# Altium schematic symbol library kmilo17pet-Microchip_MixedSignal.SchLib: 1399 symbols (part 25 of 36)
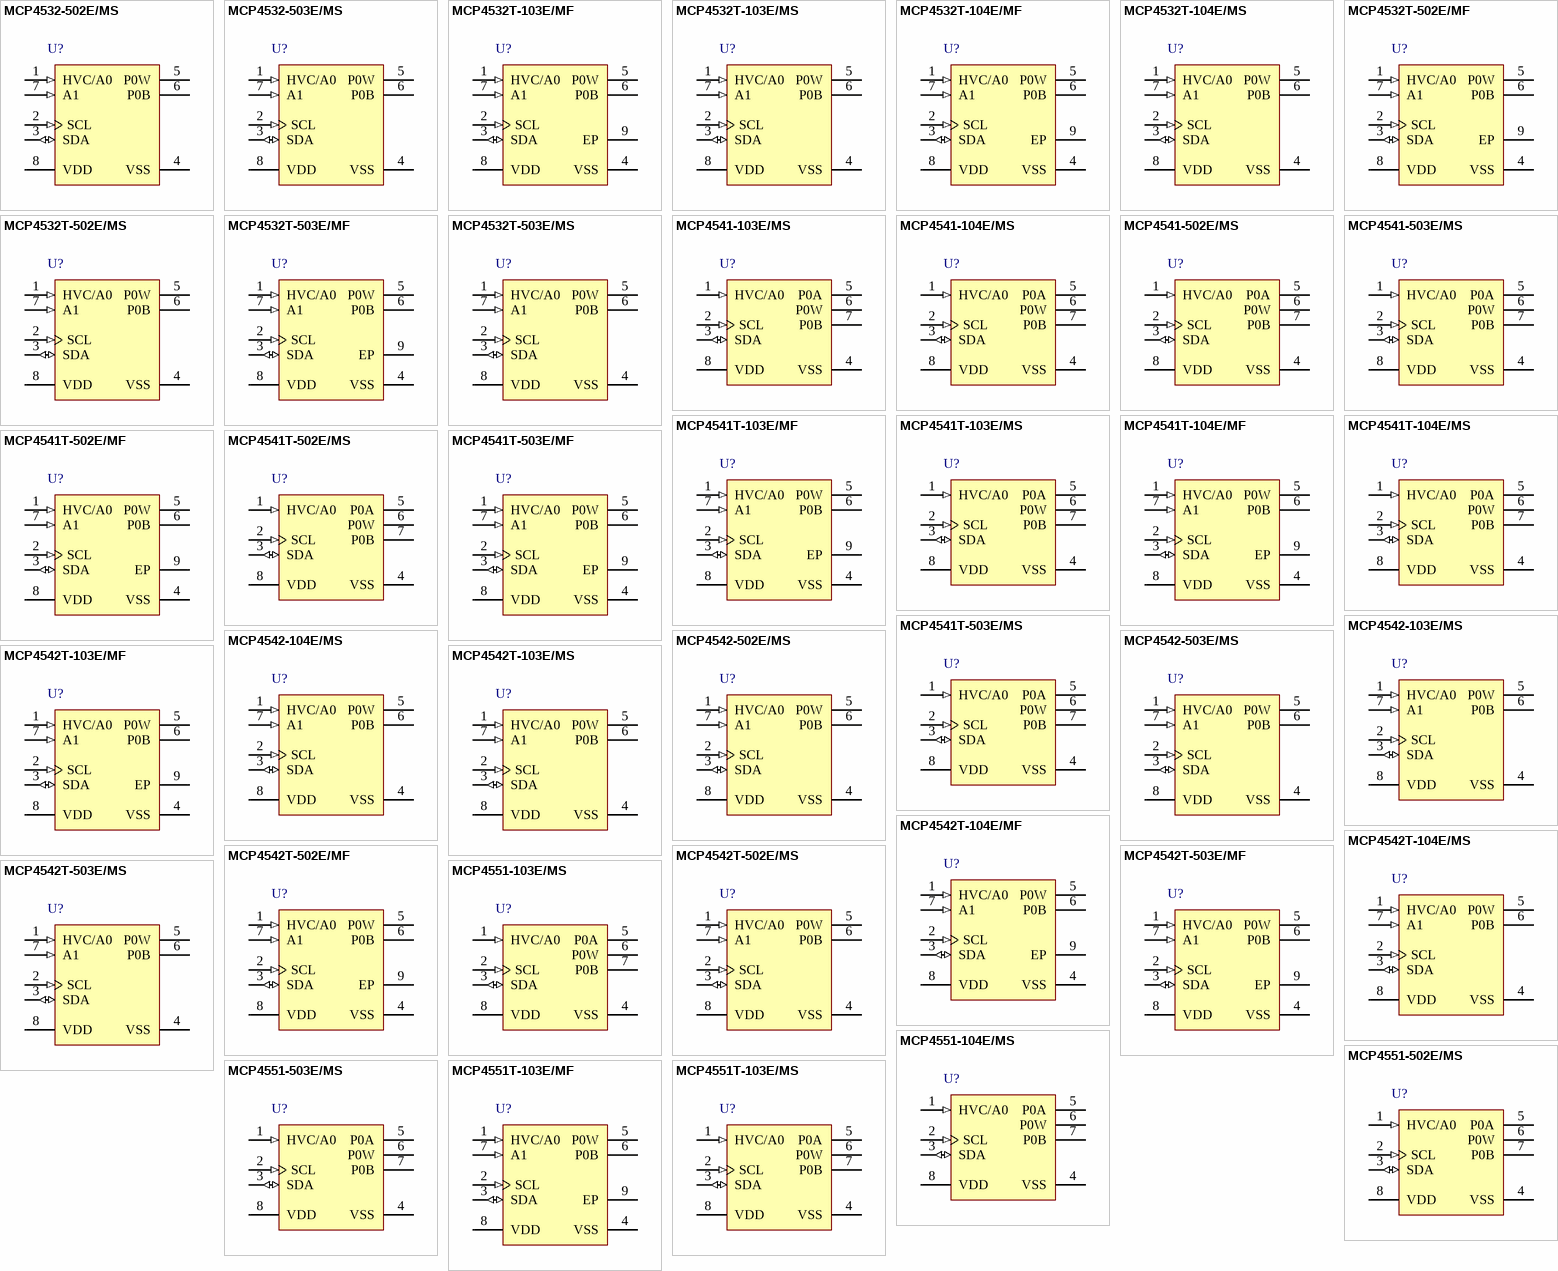
[diagram p68: symbols MCP4532-502E/MS to MCP4551T-103E/MS]

## MCP4542-502E/MS
designator U?
7-Bit Single I2C Digital POT with Non-Volatile Memory, 8-pin MSOP, Extended Temperature; Manufacturer: Microchip; PartNumber: MCP4542-502E/MS; DatasheetVersion: revA, Nov-2008; PackageVersion: revBB, Aug-2009; PackageReference: MSOP-MS8; PackageDescription: 8-Lead Plastic Micro Small Outline Package (MS) [MSOP]; Supplier 1: Digi-Key; Supplier Part Number 1: MCP4542-502E/MS-ND; Mounting Technology: Surface Mount; ComponentLink1Description: Manufacturer URL; ComponentLink1URL: http://www.microchip.com/; ComponentLink2Description: Datasheet; ComponentLink2URL: http://ww1.microchip.com/downloads/en/DeviceDoc/22107a.pdf; ComponentLink3Description: Package Specification; ComponentLink3URL: http://www.microchip.com/stellent/groups/techpub_sg/documents/packagingspec/en012702.pdf
footprint MSOP-MS8_N (TSOP, 8-Leads, Body 3x3mm, Pitch 0.65mm, IPC Medium Density)
footprint MSOP-MS8_L (TSOP, 8-Leads, Body 3x3mm, Pitch 0.65mm, IPC High Density)
footprint MSOP-MS8_M (TSOP, 8-Leads, Body 3x3mm, Pitch 0.65mm, IPC Low Density)
pins: 1 HVC/A0 (in), 2 SCL (in), 3 SDA (io), 4 VSS (power), 5 P0W, 6 P0B, 7 A1 (in), 8 VDD (power)

## MCP4542-503E/MS
designator U?
7-Bit Single I2C Digital POT with Non-Volatile Memory, 8-pin MSOP, Extended Temperature; Manufacturer: Microchip; PartNumber: MCP4542-503E/MS; DatasheetVersion: revA, Nov-2008; PackageVersion: revBB, Aug-2009; PackageReference: MSOP-MS8; PackageDescription: 8-Lead Plastic Micro Small Outline Package (MS) [MSOP]; Supplier 1: Digi-Key; Supplier Part Number 1: MCP4542-503E/MS-ND; Mounting Technology: Surface Mount; ComponentLink1Description: Manufacturer URL; ComponentLink1URL: http://www.microchip.com/; ComponentLink2Description: Datasheet; ComponentLink2URL: http://ww1.microchip.com/downloads/en/DeviceDoc/22107a.pdf; ComponentLink3Description: Package Specification; ComponentLink3URL: http://www.microchip.com/stellent/groups/techpub_sg/documents/packagingspec/en012702.pdf
footprint MSOP-MS8_N (TSOP, 8-Leads, Body 3x3mm, Pitch 0.65mm, IPC Medium Density)
footprint MSOP-MS8_L (TSOP, 8-Leads, Body 3x3mm, Pitch 0.65mm, IPC High Density)
footprint MSOP-MS8_M (TSOP, 8-Leads, Body 3x3mm, Pitch 0.65mm, IPC Low Density)
pins: 1 HVC/A0 (in), 2 SCL (in), 3 SDA (io), 4 VSS (power), 5 P0W, 6 P0B, 7 A1 (in), 8 VDD (power)

## MCP4542T-103E/MF
designator U?
7-Bit Single I2C Digital POT with Non-Volatile Memory, 8-pin DFN, Extended Temperature, Tape and Reel; Manufacturer: Microchip; PartNumber: MCP4542T-103E/MF; DatasheetVersion: revA, Nov-2008; PackageVersion: revBB, Aug-2009; PackageReference: DFN-MF8; PackageDescription: 8-Lead Plastic Dual Flat, No Lead Package (MF) - 3x3x0.9mm Body [DFN]; Supplier 1: Digi-Key; Supplier Part Number 1: MCP4542T-103E/MFTR-ND; Mounting Technology: Surface Mount; ComponentLink1Description: Manufacturer URL; ComponentLink1URL: http://www.microchip.com/; ComponentLink2Description: Datasheet; ComponentLink2URL: http://ww1.microchip.com/downloads/en/DeviceDoc/22107a.pdf; ComponentLink3Description: Package Specification; ComponentLink3URL: http://www.microchip.com/stellent/groups/techpub_sg/documents/packagingspec/en012702.pdf
footprint DFN-MF8 (SON, 8-Leads, Body 3x3mm, Pitch 0.65mm, Microchip Recommended)
pins: 1 HVC/A0 (in), 2 SCL (in), 3 SDA (io), 4 VSS (power), 5 P0W, 6 P0B, 7 A1 (in), 8 VDD (power), 9 EP

## MCP4542T-103E/MS
designator U?
7-Bit Single I2C Digital POT with Non-Volatile Memory, 8-pin MSOP, Extended Temperature, Tape and Reel; Manufacturer: Microchip; PartNumber: MCP4542T-103E/MS; DatasheetVersion: revA, Nov-2008; PackageVersion: revBB, Aug-2009; PackageReference: MSOP-MS8; PackageDescription: 8-Lead Plastic Micro Small Outline Package (MS) [MSOP]; Supplier 1: Digi-Key; Supplier Part Number 1: MCP4542T-103E/MS-ND; Mounting Technology: Surface Mount; ComponentLink1Description: Manufacturer URL; ComponentLink1URL: http://www.microchip.com/; ComponentLink2Description: Datasheet; ComponentLink2URL: http://ww1.microchip.com/downloads/en/DeviceDoc/22107a.pdf; ComponentLink3Description: Package Specification; ComponentLink3URL: http://www.microchip.com/stellent/groups/techpub_sg/documents/packagingspec/en012702.pdf
footprint MSOP-MS8_N (TSOP, 8-Leads, Body 3x3mm, Pitch 0.65mm, IPC Medium Density)
footprint MSOP-MS8_L (TSOP, 8-Leads, Body 3x3mm, Pitch 0.65mm, IPC High Density)
footprint MSOP-MS8_M (TSOP, 8-Leads, Body 3x3mm, Pitch 0.65mm, IPC Low Density)
pins: 1 HVC/A0 (in), 2 SCL (in), 3 SDA (io), 4 VSS (power), 5 P0W, 6 P0B, 7 A1 (in), 8 VDD (power)

## MCP4542T-104E/MF
designator U?
7-Bit Single I2C Digital POT with Non-Volatile Memory, 8-pin DFN, Extended Temperature, Tape and Reel; Manufacturer: Microchip; PartNumber: MCP4542T-104E/MF; DatasheetVersion: revA, Nov-2008; PackageVersion: revBB, Aug-2009; PackageReference: DFN-MF8; PackageDescription: 8-Lead Plastic Dual Flat, No Lead Package (MF) - 3x3x0.9mm Body [DFN]; Supplier 1: Digi-Key; Supplier Part Number 1: MCP4542T-104E/MFTR-ND; Mounting Technology: Surface Mount; ComponentLink1Description: Manufacturer URL; ComponentLink1URL: http://www.microchip.com/; ComponentLink2Description: Datasheet; ComponentLink2URL: http://ww1.microchip.com/downloads/en/DeviceDoc/22107a.pdf; ComponentLink3Description: Package Specification; ComponentLink3URL: http://www.microchip.com/stellent/groups/techpub_sg/documents/packagingspec/en012702.pdf
footprint DFN-MF8 (SON, 8-Leads, Body 3x3mm, Pitch 0.65mm, Microchip Recommended)
pins: 1 HVC/A0 (in), 2 SCL (in), 3 SDA (io), 4 VSS (power), 5 P0W, 6 P0B, 7 A1 (in), 8 VDD (power), 9 EP

## MCP4542T-104E/MS
designator U?
7-Bit Single I2C Digital POT with Non-Volatile Memory, 8-pin MSOP, Extended Temperature, Tape and Reel; Manufacturer: Microchip; PartNumber: MCP4542T-104E/MS; DatasheetVersion: revA, Nov-2008; PackageVersion: revBB, Aug-2009; PackageReference: MSOP-MS8; PackageDescription: 8-Lead Plastic Micro Small Outline Package (MS) [MSOP]; Supplier 1: Digi-Key; Supplier Part Number 1: MCP4542T-104E/MS-ND; Mounting Technology: Surface Mount; ComponentLink1Description: Manufacturer URL; ComponentLink1URL: http://www.microchip.com/; ComponentLink2Description: Datasheet; ComponentLink2URL: http://ww1.microchip.com/downloads/en/DeviceDoc/22107a.pdf; ComponentLink3Description: Package Specification; ComponentLink3URL: http://www.microchip.com/stellent/groups/techpub_sg/documents/packagingspec/en012702.pdf
footprint MSOP-MS8_N (TSOP, 8-Leads, Body 3x3mm, Pitch 0.65mm, IPC Medium Density)
footprint MSOP-MS8_L (TSOP, 8-Leads, Body 3x3mm, Pitch 0.65mm, IPC High Density)
footprint MSOP-MS8_M (TSOP, 8-Leads, Body 3x3mm, Pitch 0.65mm, IPC Low Density)
pins: 1 HVC/A0 (in), 2 SCL (in), 3 SDA (io), 4 VSS (power), 5 P0W, 6 P0B, 7 A1 (in), 8 VDD (power)

## MCP4542T-502E/MF
designator U?
7-Bit Single I2C Digital POT with Non-Volatile Memory, 8-pin DFN, Extended Temperature, Tape and Reel; Manufacturer: Microchip; PartNumber: MCP4542T-502E/MF; DatasheetVersion: revA, Nov-2008; PackageVersion: revBB, Aug-2009; PackageReference: DFN-MF8; PackageDescription: 8-Lead Plastic Dual Flat, No Lead Package (MF) - 3x3x0.9mm Body [DFN]; Supplier 1: Digi-Key; Supplier Part Number 1: MCP4542T-502E/MFTR-ND; Mounting Technology: Surface Mount; ComponentLink1Description: Manufacturer URL; ComponentLink1URL: http://www.microchip.com/; ComponentLink2Description: Datasheet; ComponentLink2URL: http://ww1.microchip.com/downloads/en/DeviceDoc/22107a.pdf; ComponentLink3Description: Package Specification; ComponentLink3URL: http://www.microchip.com/stellent/groups/techpub_sg/documents/packagingspec/en012702.pdf
footprint DFN-MF8 (SON, 8-Leads, Body 3x3mm, Pitch 0.65mm, Microchip Recommended)
pins: 1 HVC/A0 (in), 2 SCL (in), 3 SDA (io), 4 VSS (power), 5 P0W, 6 P0B, 7 A1 (in), 8 VDD (power), 9 EP

## MCP4542T-502E/MS
designator U?
7-Bit Single I2C Digital POT with Non-Volatile Memory, 8-pin MSOP, Extended Temperature, Tape and Reel; Manufacturer: Microchip; PartNumber: MCP4542T-502E/MS; DatasheetVersion: revA, Nov-2008; PackageVersion: revBB, Aug-2009; PackageReference: MSOP-MS8; PackageDescription: 8-Lead Plastic Micro Small Outline Package (MS) [MSOP]; Supplier 1: Digi-Key; Supplier Part Number 1: MCP4542T-502E/MS-ND; Mounting Technology: Surface Mount; ComponentLink1Description: Manufacturer URL; ComponentLink1URL: http://www.microchip.com/; ComponentLink2Description: Datasheet; ComponentLink2URL: http://ww1.microchip.com/downloads/en/DeviceDoc/22107a.pdf; ComponentLink3Description: Package Specification; ComponentLink3URL: http://www.microchip.com/stellent/groups/techpub_sg/documents/packagingspec/en012702.pdf
footprint MSOP-MS8_N (TSOP, 8-Leads, Body 3x3mm, Pitch 0.65mm, IPC Medium Density)
footprint MSOP-MS8_L (TSOP, 8-Leads, Body 3x3mm, Pitch 0.65mm, IPC High Density)
footprint MSOP-MS8_M (TSOP, 8-Leads, Body 3x3mm, Pitch 0.65mm, IPC Low Density)
pins: 1 HVC/A0 (in), 2 SCL (in), 3 SDA (io), 4 VSS (power), 5 P0W, 6 P0B, 7 A1 (in), 8 VDD (power)

## MCP4542T-503E/MF
designator U?
7-Bit Single I2C Digital POT with Non-Volatile Memory, 8-pin DFN, Extended Temperature, Tape and Reel; Manufacturer: Microchip; PartNumber: MCP4542T-503E/MF; DatasheetVersion: revA, Nov-2008; PackageVersion: revBB, Aug-2009; PackageReference: DFN-MF8; PackageDescription: 8-Lead Plastic Dual Flat, No Lead Package (MF) - 3x3x0.9mm Body [DFN]; Supplier 1: Digi-Key; Supplier Part Number 1: MCP4542T-503E/MFTR-ND; Mounting Technology: Surface Mount; ComponentLink1Description: Manufacturer URL; ComponentLink1URL: http://www.microchip.com/; ComponentLink2Description: Datasheet; ComponentLink2URL: http://ww1.microchip.com/downloads/en/DeviceDoc/22107a.pdf; ComponentLink3Description: Package Specification; ComponentLink3URL: http://www.microchip.com/stellent/groups/techpub_sg/documents/packagingspec/en012702.pdf
footprint DFN-MF8 (SON, 8-Leads, Body 3x3mm, Pitch 0.65mm, Microchip Recommended)
pins: 1 HVC/A0 (in), 2 SCL (in), 3 SDA (io), 4 VSS (power), 5 P0W, 6 P0B, 7 A1 (in), 8 VDD (power), 9 EP

## MCP4542T-503E/MS
designator U?
7-Bit Single I2C Digital POT with Non-Volatile Memory, 8-pin MSOP, Extended Temperature, Tape and Reel; Manufacturer: Microchip; PartNumber: MCP4542T-503E/MS; DatasheetVersion: revA, Nov-2008; PackageVersion: revBB, Aug-2009; PackageReference: MSOP-MS8; PackageDescription: 8-Lead Plastic Micro Small Outline Package (MS) [MSOP]; Supplier 1: Digi-Key; Supplier Part Number 1: MCP4542T-503E/MS-ND; Mounting Technology: Surface Mount; ComponentLink1Description: Manufacturer URL; ComponentLink1URL: http://www.microchip.com/; ComponentLink2Description: Datasheet; ComponentLink2URL: http://ww1.microchip.com/downloads/en/DeviceDoc/22107a.pdf; ComponentLink3Description: Package Specification; ComponentLink3URL: http://www.microchip.com/stellent/groups/techpub_sg/documents/packagingspec/en012702.pdf
footprint MSOP-MS8_N (TSOP, 8-Leads, Body 3x3mm, Pitch 0.65mm, IPC Medium Density)
footprint MSOP-MS8_L (TSOP, 8-Leads, Body 3x3mm, Pitch 0.65mm, IPC High Density)
footprint MSOP-MS8_M (TSOP, 8-Leads, Body 3x3mm, Pitch 0.65mm, IPC Low Density)
pins: 1 HVC/A0 (in), 2 SCL (in), 3 SDA (io), 4 VSS (power), 5 P0W, 6 P0B, 7 A1 (in), 8 VDD (power)

## MCP4551-103E/MS
designator U?
8-Bit Single I2C Digital POT with Volatile Memory, 8-pin MSOP, Extended Temperature; Manufacturer: Microchip; PartNumber: MCP4551-103E/MS; DatasheetVersion: revA, Nov-2008; PackageVersion: revBB, Aug-2009; PackageReference: MSOP-MS8; PackageDescription: 8-Lead Plastic Micro Small Outline Package (MS) [MSOP]; Supplier 1: Digi-Key; Supplier Part Number 1: MCP4551-103E/MS-ND; Mounting Technology: Surface Mount; ComponentLink1Description: Manufacturer URL; ComponentLink1URL: http://www.microchip.com/; ComponentLink2Description: Datasheet; ComponentLink2URL: http://ww1.microchip.com/downloads/en/DeviceDoc/DS-22096a.pdf; ComponentLink3Description: Package Specification; ComponentLink3URL: http://www.microchip.com/stellent/groups/techpub_sg/documents/packagingspec/en012702.pdf
footprint MSOP-MS8_N (TSOP, 8-Leads, Body 3x3mm, Pitch 0.65mm, IPC Medium Density)
footprint MSOP-MS8_L (TSOP, 8-Leads, Body 3x3mm, Pitch 0.65mm, IPC High Density)
footprint MSOP-MS8_M (TSOP, 8-Leads, Body 3x3mm, Pitch 0.65mm, IPC Low Density)
pins: 1 HVC/A0 (in), 2 SCL (in), 3 SDA (io), 4 VSS (power), 5 P0A, 6 P0W, 7 P0B, 8 VDD (power)

## MCP4551-104E/MS
designator U?
8-Bit Single I2C Digital POT with Volatile Memory, 8-pin MSOP, Extended Temperature; Manufacturer: Microchip; PartNumber: MCP4551-104E/MS; DatasheetVersion: revA, Nov-2008; PackageVersion: revBB, Aug-2009; PackageReference: MSOP-MS8; PackageDescription: 8-Lead Plastic Micro Small Outline Package (MS) [MSOP]; Supplier 1: Digi-Key; Supplier Part Number 1: MCP4551-104E/MS-ND; Mounting Technology: Surface Mount; ComponentLink1Description: Manufacturer URL; ComponentLink1URL: http://www.microchip.com/; ComponentLink2Description: Datasheet; ComponentLink2URL: http://ww1.microchip.com/downloads/en/DeviceDoc/DS-22096a.pdf; ComponentLink3Description: Package Specification; ComponentLink3URL: http://www.microchip.com/stellent/groups/techpub_sg/documents/packagingspec/en012702.pdf
footprint MSOP-MS8_N (TSOP, 8-Leads, Body 3x3mm, Pitch 0.65mm, IPC Medium Density)
footprint MSOP-MS8_L (TSOP, 8-Leads, Body 3x3mm, Pitch 0.65mm, IPC High Density)
footprint MSOP-MS8_M (TSOP, 8-Leads, Body 3x3mm, Pitch 0.65mm, IPC Low Density)
pins: 1 HVC/A0 (in), 2 SCL (in), 3 SDA (io), 4 VSS (power), 5 P0A, 6 P0W, 7 P0B, 8 VDD (power)

## MCP4551-502E/MS
designator U?
8-Bit Single I2C Digital POT with Volatile Memory, 8-pin MSOP, Extended Temperature; Manufacturer: Microchip; PartNumber: MCP4551-502E/MS; DatasheetVersion: revA, Nov-2008; PackageVersion: revBB, Aug-2009; PackageReference: MSOP-MS8; PackageDescription: 8-Lead Plastic Micro Small Outline Package (MS) [MSOP]; Supplier 1: Digi-Key; Supplier Part Number 1: MCP4551-502E/MS-ND; Mounting Technology: Surface Mount; ComponentLink1Description: Manufacturer URL; ComponentLink1URL: http://www.microchip.com/; ComponentLink2Description: Datasheet; ComponentLink2URL: http://ww1.microchip.com/downloads/en/DeviceDoc/DS-22096a.pdf; ComponentLink3Description: Package Specification; ComponentLink3URL: http://www.microchip.com/stellent/groups/techpub_sg/documents/packagingspec/en012702.pdf
footprint MSOP-MS8_N (TSOP, 8-Leads, Body 3x3mm, Pitch 0.65mm, IPC Medium Density)
footprint MSOP-MS8_L (TSOP, 8-Leads, Body 3x3mm, Pitch 0.65mm, IPC High Density)
footprint MSOP-MS8_M (TSOP, 8-Leads, Body 3x3mm, Pitch 0.65mm, IPC Low Density)
pins: 1 HVC/A0 (in), 2 SCL (in), 3 SDA (io), 4 VSS (power), 5 P0A, 6 P0W, 7 P0B, 8 VDD (power)

## MCP4551-503E/MS
designator U?
8-Bit Single I2C Digital POT with Volatile Memory, 8-pin MSOP, Extended Temperature; Manufacturer: Microchip; PartNumber: MCP4551-503E/MS; DatasheetVersion: revA, Nov-2008; PackageVersion: revBB, Aug-2009; PackageReference: MSOP-MS8; PackageDescription: 8-Lead Plastic Micro Small Outline Package (MS) [MSOP]; Supplier 1: Digi-Key; Supplier Part Number 1: MCP4551-503E/MS-ND; Mounting Technology: Surface Mount; ComponentLink1Description: Manufacturer URL; ComponentLink1URL: http://www.microchip.com/; ComponentLink2Description: Datasheet; ComponentLink2URL: http://ww1.microchip.com/downloads/en/DeviceDoc/DS-22096a.pdf; ComponentLink3Description: Package Specification; ComponentLink3URL: http://www.microchip.com/stellent/groups/techpub_sg/documents/packagingspec/en012702.pdf
footprint MSOP-MS8_N (TSOP, 8-Leads, Body 3x3mm, Pitch 0.65mm, IPC Medium Density)
footprint MSOP-MS8_L (TSOP, 8-Leads, Body 3x3mm, Pitch 0.65mm, IPC High Density)
footprint MSOP-MS8_M (TSOP, 8-Leads, Body 3x3mm, Pitch 0.65mm, IPC Low Density)
pins: 1 HVC/A0 (in), 2 SCL (in), 3 SDA (io), 4 VSS (power), 5 P0A, 6 P0W, 7 P0B, 8 VDD (power)

## MCP4551T-103E/MF
designator U?
8-Bit Single I2C Digital POT with Volatile Memory, 8-pin DFN, Extended Temperature, Tape and Reel; Manufacturer: Microchip; PartNumber: MCP4551T-103E/MF; DatasheetVersion: revA, Nov-2008; PackageVersion: revBB, Aug-2009; PackageReference: DFN-MF8; PackageDescription: 8-Lead Plastic Dual Flat, No Lead Package (MF) - 3x3x0.9mm Body [DFN]; Supplier 1: Digi-Key; Supplier Part Number 1: MCP4551T-103E/MFTR-ND; Mounting Technology: Surface Mount; ComponentLink1Description: Manufacturer URL; ComponentLink1URL: http://www.microchip.com/; ComponentLink2Description: Datasheet; ComponentLink2URL: http://ww1.microchip.com/downloads/en/DeviceDoc/DS-22096a.pdf; ComponentLink3Description: Package Specification; ComponentLink3URL: http://www.microchip.com/stellent/groups/techpub_sg/documents/packagingspec/en012702.pdf
footprint DFN-MF8 (SON, 8-Leads, Body 3x3mm, Pitch 0.65mm, Microchip Recommended)
pins: 1 HVC/A0 (in), 2 SCL (in), 3 SDA (io), 4 VSS (power), 5 P0W, 6 P0B, 7 A1 (in), 8 VDD (power), 9 EP

## MCP4551T-103E/MS
designator U?
8-Bit Single I2C Digital POT with Volatile Memory, 8-pin MSOP, Extended Temperature, Tape and Reel; Manufacturer: Microchip; PartNumber: MCP4551T-103E/MS; DatasheetVersion: revA, Nov-2008; PackageVersion: revBB, Aug-2009; PackageReference: MSOP-MS8; PackageDescription: 8-Lead Plastic Micro Small Outline Package (MS) [MSOP]; Supplier 1: Digi-Key; Supplier Part Number 1: MCP4551T-103E/MS-ND; Mounting Technology: Surface Mount; ComponentLink1Description: Manufacturer URL; ComponentLink1URL: http://www.microchip.com/; ComponentLink2Description: Datasheet; ComponentLink2URL: http://ww1.microchip.com/downloads/en/DeviceDoc/DS-22096a.pdf; ComponentLink3Description: Package Specification; ComponentLink3URL: http://www.microchip.com/stellent/groups/techpub_sg/documents/packagingspec/en012702.pdf
footprint MSOP-MS8_N (TSOP, 8-Leads, Body 3x3mm, Pitch 0.65mm, IPC Medium Density)
footprint MSOP-MS8_L (TSOP, 8-Leads, Body 3x3mm, Pitch 0.65mm, IPC High Density)
footprint MSOP-MS8_M (TSOP, 8-Leads, Body 3x3mm, Pitch 0.65mm, IPC Low Density)
pins: 1 HVC/A0 (in), 2 SCL (in), 3 SDA (io), 4 VSS (power), 5 P0A, 6 P0W, 7 P0B, 8 VDD (power)

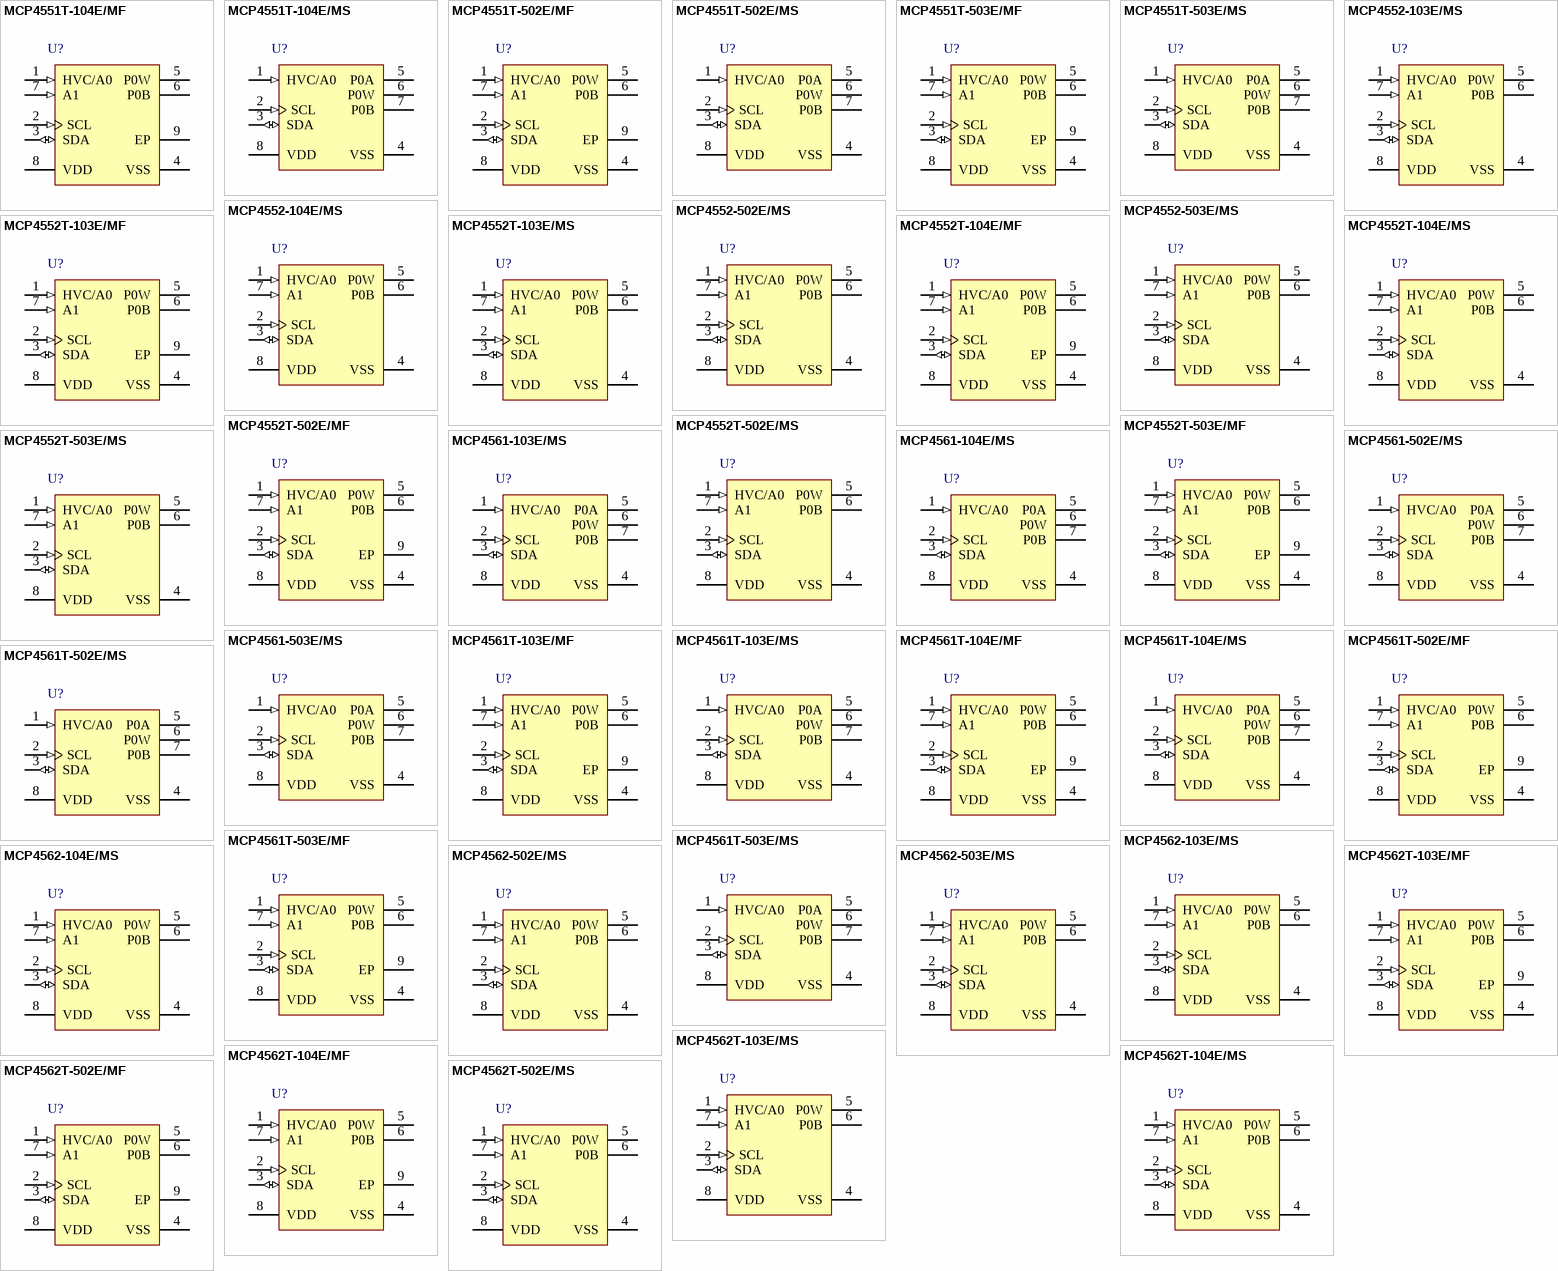
[diagram p29: symbols MCP4551T-104E/MF to MCP4562T-502E/MS]

## MCP4551T-104E/MF
designator U?
8-Bit Single I2C Digital POT with Volatile Memory, 8-pin DFN, Extended Temperature, Tape and Reel; Manufacturer: Microchip; PartNumber: MCP4551T-104E/MF; DatasheetVersion: revA, Nov-2008; PackageVersion: revBB, Aug-2009; PackageReference: DFN-MF8; PackageDescription: 8-Lead Plastic Dual Flat, No Lead Package (MF) - 3x3x0.9mm Body [DFN]; Supplier 1: Digi-Key; Supplier Part Number 1: MCP4551T-104E/MFTR-ND; Mounting Technology: Surface Mount; ComponentLink1Description: Manufacturer URL; ComponentLink1URL: http://www.microchip.com/; ComponentLink2Description: Datasheet; ComponentLink2URL: http://ww1.microchip.com/downloads/en/DeviceDoc/DS-22096a.pdf; ComponentLink3Description: Package Specification; ComponentLink3URL: http://www.microchip.com/stellent/groups/techpub_sg/documents/packagingspec/en012702.pdf
footprint DFN-MF8 (SON, 8-Leads, Body 3x3mm, Pitch 0.65mm, Microchip Recommended)
pins: 1 HVC/A0 (in), 2 SCL (in), 3 SDA (io), 4 VSS (power), 5 P0W, 6 P0B, 7 A1 (in), 8 VDD (power), 9 EP

## MCP4551T-104E/MS
designator U?
8-Bit Single I2C Digital POT with Volatile Memory, 8-pin MSOP, Extended Temperature, Tape and Reel; Manufacturer: Microchip; PartNumber: MCP4551T-104E/MS; DatasheetVersion: revA, Nov-2008; PackageVersion: revBB, Aug-2009; PackageReference: MSOP-MS8; PackageDescription: 8-Lead Plastic Micro Small Outline Package (MS) [MSOP]; Supplier 1: Digi-Key; Supplier Part Number 1: MCP4551T-104E/MS-ND; Mounting Technology: Surface Mount; ComponentLink1Description: Manufacturer URL; ComponentLink1URL: http://www.microchip.com/; ComponentLink2Description: Datasheet; ComponentLink2URL: http://ww1.microchip.com/downloads/en/DeviceDoc/DS-22096a.pdf; ComponentLink3Description: Package Specification; ComponentLink3URL: http://www.microchip.com/stellent/groups/techpub_sg/documents/packagingspec/en012702.pdf
footprint MSOP-MS8_N (TSOP, 8-Leads, Body 3x3mm, Pitch 0.65mm, IPC Medium Density)
footprint MSOP-MS8_L (TSOP, 8-Leads, Body 3x3mm, Pitch 0.65mm, IPC High Density)
footprint MSOP-MS8_M (TSOP, 8-Leads, Body 3x3mm, Pitch 0.65mm, IPC Low Density)
pins: 1 HVC/A0 (in), 2 SCL (in), 3 SDA (io), 4 VSS (power), 5 P0A, 6 P0W, 7 P0B, 8 VDD (power)

## MCP4551T-502E/MF
designator U?
8-Bit Single I2C Digital POT with Volatile Memory, 8-pin DFN, Extended Temperature, Tape and Reel; Manufacturer: Microchip; PartNumber: MCP4551T-502E/MF; DatasheetVersion: revA, Nov-2008; PackageVersion: revBB, Aug-2009; PackageReference: DFN-MF8; PackageDescription: 8-Lead Plastic Dual Flat, No Lead Package (MF) - 3x3x0.9mm Body [DFN]; Supplier 1: Digi-Key; Supplier Part Number 1: MCP4551T-502E/MFTR-ND; Mounting Technology: Surface Mount; ComponentLink1Description: Manufacturer URL; ComponentLink1URL: http://www.microchip.com/; ComponentLink2Description: Datasheet; ComponentLink2URL: http://ww1.microchip.com/downloads/en/DeviceDoc/DS-22096a.pdf; ComponentLink3Description: Package Specification; ComponentLink3URL: http://www.microchip.com/stellent/groups/techpub_sg/documents/packagingspec/en012702.pdf
footprint DFN-MF8 (SON, 8-Leads, Body 3x3mm, Pitch 0.65mm, Microchip Recommended)
pins: 1 HVC/A0 (in), 2 SCL (in), 3 SDA (io), 4 VSS (power), 5 P0W, 6 P0B, 7 A1 (in), 8 VDD (power), 9 EP

## MCP4551T-502E/MS
designator U?
8-Bit Single I2C Digital POT with Volatile Memory, 8-pin MSOP, Extended Temperature, Tape and Reel; Manufacturer: Microchip; PartNumber: MCP4551T-502E/MS; DatasheetVersion: revA, Nov-2008; PackageVersion: revBB, Aug-2009; PackageReference: MSOP-MS8; PackageDescription: 8-Lead Plastic Micro Small Outline Package (MS) [MSOP]; Supplier 1: Digi-Key; Supplier Part Number 1: MCP4551T-502E/MS-ND; Mounting Technology: Surface Mount; ComponentLink1Description: Manufacturer URL; ComponentLink1URL: http://www.microchip.com/; ComponentLink2Description: Datasheet; ComponentLink2URL: http://ww1.microchip.com/downloads/en/DeviceDoc/DS-22096a.pdf; ComponentLink3Description: Package Specification; ComponentLink3URL: http://www.microchip.com/stellent/groups/techpub_sg/documents/packagingspec/en012702.pdf
footprint MSOP-MS8_N (TSOP, 8-Leads, Body 3x3mm, Pitch 0.65mm, IPC Medium Density)
footprint MSOP-MS8_L (TSOP, 8-Leads, Body 3x3mm, Pitch 0.65mm, IPC High Density)
footprint MSOP-MS8_M (TSOP, 8-Leads, Body 3x3mm, Pitch 0.65mm, IPC Low Density)
pins: 1 HVC/A0 (in), 2 SCL (in), 3 SDA (io), 4 VSS (power), 5 P0A, 6 P0W, 7 P0B, 8 VDD (power)

## MCP4551T-503E/MF
designator U?
8-Bit Single I2C Digital POT with Volatile Memory, 8-pin DFN, Extended Temperature, Tape and Reel; Manufacturer: Microchip; PartNumber: MCP4551T-503E/MF; DatasheetVersion: revA, Nov-2008; PackageVersion: revBB, Aug-2009; PackageReference: DFN-MF8; PackageDescription: 8-Lead Plastic Dual Flat, No Lead Package (MF) - 3x3x0.9mm Body [DFN]; Supplier 1: Digi-Key; Supplier Part Number 1: MCP4551T-503E/MFTR-ND; Mounting Technology: Surface Mount; ComponentLink1Description: Manufacturer URL; ComponentLink1URL: http://www.microchip.com/; ComponentLink2Description: Datasheet; ComponentLink2URL: http://ww1.microchip.com/downloads/en/DeviceDoc/DS-22096a.pdf; ComponentLink3Description: Package Specification; ComponentLink3URL: http://www.microchip.com/stellent/groups/techpub_sg/documents/packagingspec/en012702.pdf
footprint DFN-MF8 (SON, 8-Leads, Body 3x3mm, Pitch 0.65mm, Microchip Recommended)
pins: 1 HVC/A0 (in), 2 SCL (in), 3 SDA (io), 4 VSS (power), 5 P0W, 6 P0B, 7 A1 (in), 8 VDD (power), 9 EP

## MCP4551T-503E/MS
designator U?
8-Bit Single I2C Digital POT with Volatile Memory, 8-pin MSOP, Extended Temperature, Tape and Reel; Manufacturer: Microchip; PartNumber: MCP4551T-503E/MS; DatasheetVersion: revA, Nov-2008; PackageVersion: revBB, Aug-2009; PackageReference: MSOP-MS8; PackageDescription: 8-Lead Plastic Micro Small Outline Package (MS) [MSOP]; Supplier 1: Digi-Key; Supplier Part Number 1: MCP4551T-503E/MS-ND; Mounting Technology: Surface Mount; ComponentLink1Description: Manufacturer URL; ComponentLink1URL: http://www.microchip.com/; ComponentLink2Description: Datasheet; ComponentLink2URL: http://ww1.microchip.com/downloads/en/DeviceDoc/DS-22096a.pdf; ComponentLink3Description: Package Specification; ComponentLink3URL: http://www.microchip.com/stellent/groups/techpub_sg/documents/packagingspec/en012702.pdf
footprint MSOP-MS8_N (TSOP, 8-Leads, Body 3x3mm, Pitch 0.65mm, IPC Medium Density)
footprint MSOP-MS8_L (TSOP, 8-Leads, Body 3x3mm, Pitch 0.65mm, IPC High Density)
footprint MSOP-MS8_M (TSOP, 8-Leads, Body 3x3mm, Pitch 0.65mm, IPC Low Density)
pins: 1 HVC/A0 (in), 2 SCL (in), 3 SDA (io), 4 VSS (power), 5 P0A, 6 P0W, 7 P0B, 8 VDD (power)

## MCP4552-103E/MS
designator U?
8-Bit Single I2C Digital POT with Volatile Memory, 8-pin MSOP, Extended Temperature; Manufacturer: Microchip; PartNumber: MCP4552-103E/MS; DatasheetVersion: revA, Nov-2008; PackageVersion: revBB, Aug-2009; PackageReference: MSOP-MS8; PackageDescription: 8-Lead Plastic Micro Small Outline Package (MS) [MSOP]; Supplier 1: Digi-Key; Supplier Part Number 1: MCP4552-103E/MS-ND; Mounting Technology: Surface Mount; ComponentLink1Description: Manufacturer URL; ComponentLink1URL: http://www.microchip.com/; ComponentLink2Description: Datasheet; ComponentLink2URL: http://ww1.microchip.com/downloads/en/DeviceDoc/DS-22096a.pdf; ComponentLink3Description: Package Specification; ComponentLink3URL: http://www.microchip.com/stellent/groups/techpub_sg/documents/packagingspec/en012702.pdf
footprint MSOP-MS8_N (TSOP, 8-Leads, Body 3x3mm, Pitch 0.65mm, IPC Medium Density)
footprint MSOP-MS8_L (TSOP, 8-Leads, Body 3x3mm, Pitch 0.65mm, IPC High Density)
footprint MSOP-MS8_M (TSOP, 8-Leads, Body 3x3mm, Pitch 0.65mm, IPC Low Density)
pins: 1 HVC/A0 (in), 2 SCL (in), 3 SDA (io), 4 VSS (power), 5 P0W, 6 P0B, 7 A1 (in), 8 VDD (power)

## MCP4552-104E/MS
designator U?
8-Bit Single I2C Digital POT with Volatile Memory, 8-pin MSOP, Extended Temperature; Manufacturer: Microchip; PartNumber: MCP4552-104E/MS; DatasheetVersion: revA, Nov-2008; PackageVersion: revBB, Aug-2009; PackageReference: MSOP-MS8; PackageDescription: 8-Lead Plastic Micro Small Outline Package (MS) [MSOP]; Supplier 1: Digi-Key; Supplier Part Number 1: MCP4552-104E/MS-ND; Mounting Technology: Surface Mount; ComponentLink1Description: Manufacturer URL; ComponentLink1URL: http://www.microchip.com/; ComponentLink2Description: Datasheet; ComponentLink2URL: http://ww1.microchip.com/downloads/en/DeviceDoc/DS-22096a.pdf; ComponentLink3Description: Package Specification; ComponentLink3URL: http://www.microchip.com/stellent/groups/techpub_sg/documents/packagingspec/en012702.pdf
footprint MSOP-MS8_N (TSOP, 8-Leads, Body 3x3mm, Pitch 0.65mm, IPC Medium Density)
footprint MSOP-MS8_L (TSOP, 8-Leads, Body 3x3mm, Pitch 0.65mm, IPC High Density)
footprint MSOP-MS8_M (TSOP, 8-Leads, Body 3x3mm, Pitch 0.65mm, IPC Low Density)
pins: 1 HVC/A0 (in), 2 SCL (in), 3 SDA (io), 4 VSS (power), 5 P0W, 6 P0B, 7 A1 (in), 8 VDD (power)

## MCP4552-502E/MS
designator U?
8-Bit Single I2C Digital POT with Volatile Memory, 8-pin MSOP, Extended Temperature; Manufacturer: Microchip; PartNumber: MCP4552-502E/MS; DatasheetVersion: revA, Nov-2008; PackageVersion: revBB, Aug-2009; PackageReference: MSOP-MS8; PackageDescription: 8-Lead Plastic Micro Small Outline Package (MS) [MSOP]; Supplier 1: Digi-Key; Supplier Part Number 1: MCP4552-502E/MS-ND; Mounting Technology: Surface Mount; ComponentLink1Description: Manufacturer URL; ComponentLink1URL: http://www.microchip.com/; ComponentLink2Description: Datasheet; ComponentLink2URL: http://ww1.microchip.com/downloads/en/DeviceDoc/DS-22096a.pdf; ComponentLink3Description: Package Specification; ComponentLink3URL: http://www.microchip.com/stellent/groups/techpub_sg/documents/packagingspec/en012702.pdf
footprint MSOP-MS8_N (TSOP, 8-Leads, Body 3x3mm, Pitch 0.65mm, IPC Medium Density)
footprint MSOP-MS8_L (TSOP, 8-Leads, Body 3x3mm, Pitch 0.65mm, IPC High Density)
footprint MSOP-MS8_M (TSOP, 8-Leads, Body 3x3mm, Pitch 0.65mm, IPC Low Density)
pins: 1 HVC/A0 (in), 2 SCL (in), 3 SDA (io), 4 VSS (power), 5 P0W, 6 P0B, 7 A1 (in), 8 VDD (power)

## MCP4552-503E/MS
designator U?
8-Bit Single I2C Digital POT with Volatile Memory, 8-pin MSOP, Extended Temperature; Manufacturer: Microchip; PartNumber: MCP4552-503E/MS; DatasheetVersion: revA, Nov-2008; PackageVersion: revBB, Aug-2009; PackageReference: MSOP-MS8; PackageDescription: 8-Lead Plastic Micro Small Outline Package (MS) [MSOP]; Supplier 1: Digi-Key; Supplier Part Number 1: MCP4552-503E/MS-ND; Mounting Technology: Surface Mount; ComponentLink1Description: Manufacturer URL; ComponentLink1URL: http://www.microchip.com/; ComponentLink2Description: Datasheet; ComponentLink2URL: http://ww1.microchip.com/downloads/en/DeviceDoc/DS-22096a.pdf; ComponentLink3Description: Package Specification; ComponentLink3URL: http://www.microchip.com/stellent/groups/techpub_sg/documents/packagingspec/en012702.pdf
footprint MSOP-MS8_N (TSOP, 8-Leads, Body 3x3mm, Pitch 0.65mm, IPC Medium Density)
footprint MSOP-MS8_L (TSOP, 8-Leads, Body 3x3mm, Pitch 0.65mm, IPC High Density)
footprint MSOP-MS8_M (TSOP, 8-Leads, Body 3x3mm, Pitch 0.65mm, IPC Low Density)
pins: 1 HVC/A0 (in), 2 SCL (in), 3 SDA (io), 4 VSS (power), 5 P0W, 6 P0B, 7 A1 (in), 8 VDD (power)

## MCP4552T-103E/MF
designator U?
8-Bit Single I2C Digital POT with Volatile Memory, 8-pin DFN, Extended Temperature, Tape and Reel; Manufacturer: Microchip; PartNumber: MCP4552T-103E/MF; DatasheetVersion: revA, Nov-2008; PackageVersion: revBB, Aug-2009; PackageReference: DFN-MF8; PackageDescription: 8-Lead Plastic Dual Flat, No Lead Package (MF) - 3x3x0.9mm Body [DFN]; Supplier 1: Digi-Key; Supplier Part Number 1: MCP4552T-103E/MFTR-ND; Mounting Technology: Surface Mount; ComponentLink1Description: Manufacturer URL; ComponentLink1URL: http://www.microchip.com/; ComponentLink2Description: Datasheet; ComponentLink2URL: http://ww1.microchip.com/downloads/en/DeviceDoc/DS-22096a.pdf; ComponentLink3Description: Package Specification; ComponentLink3URL: http://www.microchip.com/stellent/groups/techpub_sg/documents/packagingspec/en012702.pdf
footprint DFN-MF8 (SON, 8-Leads, Body 3x3mm, Pitch 0.65mm, Microchip Recommended)
pins: 1 HVC/A0 (in), 2 SCL (in), 3 SDA (io), 4 VSS (power), 5 P0W, 6 P0B, 7 A1 (in), 8 VDD (power), 9 EP

## MCP4552T-103E/MS
designator U?
8-Bit Single I2C Digital POT with Volatile Memory, 8-pin MSOP, Extended Temperature, Tape and Reel; Manufacturer: Microchip; PartNumber: MCP4552T-103E/MS; DatasheetVersion: revA, Nov-2008; PackageVersion: revBB, Aug-2009; PackageReference: MSOP-MS8; PackageDescription: 8-Lead Plastic Micro Small Outline Package (MS) [MSOP]; Supplier 1: Digi-Key; Supplier Part Number 1: MCP4552T-103E/MS-ND; Mounting Technology: Surface Mount; ComponentLink1Description: Manufacturer URL; ComponentLink1URL: http://www.microchip.com/; ComponentLink2Description: Datasheet; ComponentLink2URL: http://ww1.microchip.com/downloads/en/DeviceDoc/DS-22096a.pdf; ComponentLink3Description: Package Specification; ComponentLink3URL: http://www.microchip.com/stellent/groups/techpub_sg/documents/packagingspec/en012702.pdf
footprint MSOP-MS8_N (TSOP, 8-Leads, Body 3x3mm, Pitch 0.65mm, IPC Medium Density)
footprint MSOP-MS8_L (TSOP, 8-Leads, Body 3x3mm, Pitch 0.65mm, IPC High Density)
footprint MSOP-MS8_M (TSOP, 8-Leads, Body 3x3mm, Pitch 0.65mm, IPC Low Density)
pins: 1 HVC/A0 (in), 2 SCL (in), 3 SDA (io), 4 VSS (power), 5 P0W, 6 P0B, 7 A1 (in), 8 VDD (power)

## MCP4552T-104E/MF
designator U?
8-Bit Single I2C Digital POT with Volatile Memory, 8-pin DFN, Extended Temperature, Tape and Reel; Manufacturer: Microchip; PartNumber: MCP4552T-104E/MF; DatasheetVersion: revA, Nov-2008; PackageVersion: revBB, Aug-2009; PackageReference: DFN-MF8; PackageDescription: 8-Lead Plastic Dual Flat, No Lead Package (MF) - 3x3x0.9mm Body [DFN]; Supplier 1: Digi-Key; Supplier Part Number 1: MCP4552T-104E/MFTR-ND; Mounting Technology: Surface Mount; ComponentLink1Description: Manufacturer URL; ComponentLink1URL: http://www.microchip.com/; ComponentLink2Description: Datasheet; ComponentLink2URL: http://ww1.microchip.com/downloads/en/DeviceDoc/DS-22096a.pdf; ComponentLink3Description: Package Specification; ComponentLink3URL: http://www.microchip.com/stellent/groups/techpub_sg/documents/packagingspec/en012702.pdf
footprint DFN-MF8 (SON, 8-Leads, Body 3x3mm, Pitch 0.65mm, Microchip Recommended)
pins: 1 HVC/A0 (in), 2 SCL (in), 3 SDA (io), 4 VSS (power), 5 P0W, 6 P0B, 7 A1 (in), 8 VDD (power), 9 EP

## MCP4552T-104E/MS
designator U?
8-Bit Single I2C Digital POT with Volatile Memory, 8-pin MSOP, Extended Temperature, Tape and Reel; Manufacturer: Microchip; PartNumber: MCP4552T-104E/MS; DatasheetVersion: revA, Nov-2008; PackageVersion: revBB, Aug-2009; PackageReference: MSOP-MS8; PackageDescription: 8-Lead Plastic Micro Small Outline Package (MS) [MSOP]; Supplier 1: Digi-Key; Supplier Part Number 1: MCP4552T-104E/MS-ND; Mounting Technology: Surface Mount; ComponentLink1Description: Manufacturer URL; ComponentLink1URL: http://www.microchip.com/; ComponentLink2Description: Datasheet; ComponentLink2URL: http://ww1.microchip.com/downloads/en/DeviceDoc/DS-22096a.pdf; ComponentLink3Description: Package Specification; ComponentLink3URL: http://www.microchip.com/stellent/groups/techpub_sg/documents/packagingspec/en012702.pdf
footprint MSOP-MS8_N (TSOP, 8-Leads, Body 3x3mm, Pitch 0.65mm, IPC Medium Density)
footprint MSOP-MS8_L (TSOP, 8-Leads, Body 3x3mm, Pitch 0.65mm, IPC High Density)
footprint MSOP-MS8_M (TSOP, 8-Leads, Body 3x3mm, Pitch 0.65mm, IPC Low Density)
pins: 1 HVC/A0 (in), 2 SCL (in), 3 SDA (io), 4 VSS (power), 5 P0W, 6 P0B, 7 A1 (in), 8 VDD (power)

## MCP4552T-502E/MF
designator U?
8-Bit Single I2C Digital POT with Volatile Memory, 8-pin DFN, Extended Temperature, Tape and Reel; Manufacturer: Microchip; PartNumber: MCP4552T-502E/MF; DatasheetVersion: revA, Nov-2008; PackageVersion: revBB, Aug-2009; PackageReference: DFN-MF8; PackageDescription: 8-Lead Plastic Dual Flat, No Lead Package (MF) - 3x3x0.9mm Body [DFN]; Supplier 1: Digi-Key; Supplier Part Number 1: MCP4552T-502E/MFTR-ND; Mounting Technology: Surface Mount; ComponentLink1Description: Manufacturer URL; ComponentLink1URL: http://www.microchip.com/; ComponentLink2Description: Datasheet; ComponentLink2URL: http://ww1.microchip.com/downloads/en/DeviceDoc/DS-22096a.pdf; ComponentLink3Description: Package Specification; ComponentLink3URL: http://www.microchip.com/stellent/groups/techpub_sg/documents/packagingspec/en012702.pdf
footprint DFN-MF8 (SON, 8-Leads, Body 3x3mm, Pitch 0.65mm, Microchip Recommended)
pins: 1 HVC/A0 (in), 2 SCL (in), 3 SDA (io), 4 VSS (power), 5 P0W, 6 P0B, 7 A1 (in), 8 VDD (power), 9 EP

## MCP4552T-502E/MS
designator U?
8-Bit Single I2C Digital POT with Volatile Memory, 8-pin MSOP, Extended Temperature, Tape and Reel; Manufacturer: Microchip; PartNumber: MCP4552T-502E/MS; DatasheetVersion: revA, Nov-2008; PackageVersion: revBB, Aug-2009; PackageReference: MSOP-MS8; PackageDescription: 8-Lead Plastic Micro Small Outline Package (MS) [MSOP]; Supplier 1: Digi-Key; Supplier Part Number 1: MCP4552T-502E/MS-ND; Mounting Technology: Surface Mount; ComponentLink1Description: Manufacturer URL; ComponentLink1URL: http://www.microchip.com/; ComponentLink2Description: Datasheet; ComponentLink2URL: http://ww1.microchip.com/downloads/en/DeviceDoc/DS-22096a.pdf; ComponentLink3Description: Package Specification; ComponentLink3URL: http://www.microchip.com/stellent/groups/techpub_sg/documents/packagingspec/en012702.pdf
footprint MSOP-MS8_N (TSOP, 8-Leads, Body 3x3mm, Pitch 0.65mm, IPC Medium Density)
footprint MSOP-MS8_L (TSOP, 8-Leads, Body 3x3mm, Pitch 0.65mm, IPC High Density)
footprint MSOP-MS8_M (TSOP, 8-Leads, Body 3x3mm, Pitch 0.65mm, IPC Low Density)
pins: 1 HVC/A0 (in), 2 SCL (in), 3 SDA (io), 4 VSS (power), 5 P0W, 6 P0B, 7 A1 (in), 8 VDD (power)

## MCP4552T-503E/MF
designator U?
8-Bit Single I2C Digital POT with Volatile Memory, 8-pin DFN, Extended Temperature, Tape and Reel; Manufacturer: Microchip; PartNumber: MCP4552T-503E/MF; DatasheetVersion: revA, Nov-2008; PackageVersion: revBB, Aug-2009; PackageReference: DFN-MF8; PackageDescription: 8-Lead Plastic Dual Flat, No Lead Package (MF) - 3x3x0.9mm Body [DFN]; Supplier 1: Digi-Key; Supplier Part Number 1: MCP4552T-503E/MFTR-ND; Mounting Technology: Surface Mount; ComponentLink1Description: Manufacturer URL; ComponentLink1URL: http://www.microchip.com/; ComponentLink2Description: Datasheet; ComponentLink2URL: http://ww1.microchip.com/downloads/en/DeviceDoc/DS-22096a.pdf; ComponentLink3Description: Package Specification; ComponentLink3URL: http://www.microchip.com/stellent/groups/techpub_sg/documents/packagingspec/en012702.pdf
footprint DFN-MF8 (SON, 8-Leads, Body 3x3mm, Pitch 0.65mm, Microchip Recommended)
pins: 1 HVC/A0 (in), 2 SCL (in), 3 SDA (io), 4 VSS (power), 5 P0W, 6 P0B, 7 A1 (in), 8 VDD (power), 9 EP

## MCP4552T-503E/MS
designator U?
8-Bit Single I2C Digital POT with Volatile Memory, 8-pin MSOP, Extended Temperature, Tape and Reel; Manufacturer: Microchip; PartNumber: MCP4552T-503E/MS; DatasheetVersion: revA, Nov-2008; PackageVersion: revBB, Aug-2009; PackageReference: MSOP-MS8; PackageDescription: 8-Lead Plastic Micro Small Outline Package (MS) [MSOP]; Supplier 1: Digi-Key; Supplier Part Number 1: MCP4552T-503E/MS-ND; Mounting Technology: Surface Mount; ComponentLink1Description: Manufacturer URL; ComponentLink1URL: http://www.microchip.com/; ComponentLink2Description: Datasheet; ComponentLink2URL: http://ww1.microchip.com/downloads/en/DeviceDoc/DS-22096a.pdf; ComponentLink3Description: Package Specification; ComponentLink3URL: http://www.microchip.com/stellent/groups/techpub_sg/documents/packagingspec/en012702.pdf
footprint MSOP-MS8_N (TSOP, 8-Leads, Body 3x3mm, Pitch 0.65mm, IPC Medium Density)
footprint MSOP-MS8_L (TSOP, 8-Leads, Body 3x3mm, Pitch 0.65mm, IPC High Density)
footprint MSOP-MS8_M (TSOP, 8-Leads, Body 3x3mm, Pitch 0.65mm, IPC Low Density)
pins: 1 HVC/A0 (in), 2 SCL (in), 3 SDA (io), 4 VSS (power), 5 P0W, 6 P0B, 7 A1 (in), 8 VDD (power)

## MCP4561-103E/MS
designator U?
8-Bit Single I2C Digital POT with Non-Volatile Memory, 8-pin MSOP, Extended Temperature; Manufacturer: Microchip; PartNumber: MCP4561-103E/MS; DatasheetVersion: revA, Nov-2008; PackageVersion: revBB, Aug-2009; PackageReference: MSOP-MS8; PackageDescription: 8-Lead Plastic Micro Small Outline Package (MS) [MSOP]; Supplier 1: Digi-Key; Supplier Part Number 1: MCP4561-103E/MS-ND; Mounting Technology: Surface Mount; ComponentLink1Description: Manufacturer URL; ComponentLink1URL: http://www.microchip.com/; ComponentLink2Description: Datasheet; ComponentLink2URL: http://ww1.microchip.com/downloads/en/DeviceDoc/22107a.pdf; ComponentLink3Description: Package Specification; ComponentLink3URL: http://www.microchip.com/stellent/groups/techpub_sg/documents/packagingspec/en012702.pdf
footprint MSOP-MS8_N (TSOP, 8-Leads, Body 3x3mm, Pitch 0.65mm, IPC Medium Density)
footprint MSOP-MS8_L (TSOP, 8-Leads, Body 3x3mm, Pitch 0.65mm, IPC High Density)
footprint MSOP-MS8_M (TSOP, 8-Leads, Body 3x3mm, Pitch 0.65mm, IPC Low Density)
pins: 1 HVC/A0 (in), 2 SCL (in), 3 SDA (io), 4 VSS (power), 5 P0A, 6 P0W, 7 P0B, 8 VDD (power)

## MCP4561-104E/MS
designator U?
8-Bit Single I2C Digital POT with Non-Volatile Memory, 8-pin MSOP, Extended Temperature; Manufacturer: Microchip; PartNumber: MCP4561-104E/MS; DatasheetVersion: revA, Nov-2008; PackageVersion: revBB, Aug-2009; PackageReference: MSOP-MS8; PackageDescription: 8-Lead Plastic Micro Small Outline Package (MS) [MSOP]; Supplier 1: Digi-Key; Supplier Part Number 1: MCP4561-104E/MS-ND; Mounting Technology: Surface Mount; ComponentLink1Description: Manufacturer URL; ComponentLink1URL: http://www.microchip.com/; ComponentLink2Description: Datasheet; ComponentLink2URL: http://ww1.microchip.com/downloads/en/DeviceDoc/22107a.pdf; ComponentLink3Description: Package Specification; ComponentLink3URL: http://www.microchip.com/stellent/groups/techpub_sg/documents/packagingspec/en012702.pdf
footprint MSOP-MS8_N (TSOP, 8-Leads, Body 3x3mm, Pitch 0.65mm, IPC Medium Density)
footprint MSOP-MS8_L (TSOP, 8-Leads, Body 3x3mm, Pitch 0.65mm, IPC High Density)
footprint MSOP-MS8_M (TSOP, 8-Leads, Body 3x3mm, Pitch 0.65mm, IPC Low Density)
pins: 1 HVC/A0 (in), 2 SCL (in), 3 SDA (io), 4 VSS (power), 5 P0A, 6 P0W, 7 P0B, 8 VDD (power)

## MCP4561-502E/MS
designator U?
8-Bit Single I2C Digital POT with Non-Volatile Memory, 8-pin MSOP, Extended Temperature; Manufacturer: Microchip; PartNumber: MCP4561-502E/MS; DatasheetVersion: revA, Nov-2008; PackageVersion: revBB, Aug-2009; PackageReference: MSOP-MS8; PackageDescription: 8-Lead Plastic Micro Small Outline Package (MS) [MSOP]; Supplier 1: Digi-Key; Supplier Part Number 1: MCP4561-502E/MS-ND; Mounting Technology: Surface Mount; ComponentLink1Description: Manufacturer URL; ComponentLink1URL: http://www.microchip.com/; ComponentLink2Description: Datasheet; ComponentLink2URL: http://ww1.microchip.com/downloads/en/DeviceDoc/22107a.pdf; ComponentLink3Description: Package Specification; ComponentLink3URL: http://www.microchip.com/stellent/groups/techpub_sg/documents/packagingspec/en012702.pdf
footprint MSOP-MS8_N (TSOP, 8-Leads, Body 3x3mm, Pitch 0.65mm, IPC Medium Density)
footprint MSOP-MS8_L (TSOP, 8-Leads, Body 3x3mm, Pitch 0.65mm, IPC High Density)
footprint MSOP-MS8_M (TSOP, 8-Leads, Body 3x3mm, Pitch 0.65mm, IPC Low Density)
pins: 1 HVC/A0 (in), 2 SCL (in), 3 SDA (io), 4 VSS (power), 5 P0A, 6 P0W, 7 P0B, 8 VDD (power)

## MCP4561-503E/MS
designator U?
8-Bit Single I2C Digital POT with Non-Volatile Memory, 8-pin MSOP, Extended Temperature; Manufacturer: Microchip; PartNumber: MCP4561-503E/MS; DatasheetVersion: revA, Nov-2008; PackageVersion: revBB, Aug-2009; PackageReference: MSOP-MS8; PackageDescription: 8-Lead Plastic Micro Small Outline Package (MS) [MSOP]; Supplier 1: Digi-Key; Supplier Part Number 1: MCP4561-503E/MS-ND; Mounting Technology: Surface Mount; ComponentLink1Description: Manufacturer URL; ComponentLink1URL: http://www.microchip.com/; ComponentLink2Description: Datasheet; ComponentLink2URL: http://ww1.microchip.com/downloads/en/DeviceDoc/22107a.pdf; ComponentLink3Description: Package Specification; ComponentLink3URL: http://www.microchip.com/stellent/groups/techpub_sg/documents/packagingspec/en012702.pdf
footprint MSOP-MS8_N (TSOP, 8-Leads, Body 3x3mm, Pitch 0.65mm, IPC Medium Density)
footprint MSOP-MS8_L (TSOP, 8-Leads, Body 3x3mm, Pitch 0.65mm, IPC High Density)
footprint MSOP-MS8_M (TSOP, 8-Leads, Body 3x3mm, Pitch 0.65mm, IPC Low Density)
pins: 1 HVC/A0 (in), 2 SCL (in), 3 SDA (io), 4 VSS (power), 5 P0A, 6 P0W, 7 P0B, 8 VDD (power)

## MCP4561T-103E/MF
designator U?
8-Bit Single I2C Digital POT with Non-Volatile Memory, 8-pin DFN, Extended Temperature, Tape and Reel; Manufacturer: Microchip; PartNumber: MCP4561T-103E/MF; DatasheetVersion: revA, Nov-2008; PackageVersion: revBB, Aug-2009; PackageReference: DFN-MF8; PackageDescription: 8-Lead Plastic Dual Flat, No Lead Package (MF) - 3x3x0.9mm Body [DFN]; Supplier 1: Digi-Key; Supplier Part Number 1: MCP4561T-103E/MFTR-ND; Mounting Technology: Surface Mount; ComponentLink1Description: Manufacturer URL; ComponentLink1URL: http://www.microchip.com/; ComponentLink2Description: Datasheet; ComponentLink2URL: http://ww1.microchip.com/downloads/en/DeviceDoc/22107a.pdf; ComponentLink3Description: Package Specification; ComponentLink3URL: http://www.microchip.com/stellent/groups/techpub_sg/documents/packagingspec/en012702.pdf
footprint DFN-MF8 (SON, 8-Leads, Body 3x3mm, Pitch 0.65mm, Microchip Recommended)
pins: 1 HVC/A0 (in), 2 SCL (in), 3 SDA (io), 4 VSS (power), 5 P0W, 6 P0B, 7 A1 (in), 8 VDD (power), 9 EP

## MCP4561T-103E/MS
designator U?
8-Bit Single I2C Digital POT with Non-Volatile Memory, 8-pin MSOP, Extended Temperature, Tape and Reel; Manufacturer: Microchip; PartNumber: MCP4561T-103E/MS; DatasheetVersion: revA, Nov-2008; PackageVersion: revBB, Aug-2009; PackageReference: MSOP-MS8; PackageDescription: 8-Lead Plastic Micro Small Outline Package (MS) [MSOP]; Supplier 1: Digi-Key; Supplier Part Number 1: MCP4561T-103E/MS-ND; Mounting Technology: Surface Mount; ComponentLink1Description: Manufacturer URL; ComponentLink1URL: http://www.microchip.com/; ComponentLink2Description: Datasheet; ComponentLink2URL: http://ww1.microchip.com/downloads/en/DeviceDoc/22107a.pdf; ComponentLink3Description: Package Specification; ComponentLink3URL: http://www.microchip.com/stellent/groups/techpub_sg/documents/packagingspec/en012702.pdf
footprint MSOP-MS8_N (TSOP, 8-Leads, Body 3x3mm, Pitch 0.65mm, IPC Medium Density)
footprint MSOP-MS8_L (TSOP, 8-Leads, Body 3x3mm, Pitch 0.65mm, IPC High Density)
footprint MSOP-MS8_M (TSOP, 8-Leads, Body 3x3mm, Pitch 0.65mm, IPC Low Density)
pins: 1 HVC/A0 (in), 2 SCL (in), 3 SDA (io), 4 VSS (power), 5 P0A, 6 P0W, 7 P0B, 8 VDD (power)

## MCP4561T-104E/MF
designator U?
8-Bit Single I2C Digital POT with Non-Volatile Memory, 8-pin DFN, Extended Temperature, Tape and Reel; Manufacturer: Microchip; PartNumber: MCP4561T-104E/MF; DatasheetVersion: revA, Nov-2008; PackageVersion: revBB, Aug-2009; PackageReference: DFN-MF8; PackageDescription: 8-Lead Plastic Dual Flat, No Lead Package (MF) - 3x3x0.9mm Body [DFN]; Supplier 1: Digi-Key; Supplier Part Number 1: MCP4561T-104E/MFTR-ND; Mounting Technology: Surface Mount; ComponentLink1Description: Manufacturer URL; ComponentLink1URL: http://www.microchip.com/; ComponentLink2Description: Datasheet; ComponentLink2URL: http://ww1.microchip.com/downloads/en/DeviceDoc/22107a.pdf; ComponentLink3Description: Package Specification; ComponentLink3URL: http://www.microchip.com/stellent/groups/techpub_sg/documents/packagingspec/en012702.pdf
footprint DFN-MF8 (SON, 8-Leads, Body 3x3mm, Pitch 0.65mm, Microchip Recommended)
pins: 1 HVC/A0 (in), 2 SCL (in), 3 SDA (io), 4 VSS (power), 5 P0W, 6 P0B, 7 A1 (in), 8 VDD (power), 9 EP

## MCP4561T-104E/MS
designator U?
8-Bit Single I2C Digital POT with Non-Volatile Memory, 8-pin MSOP, Extended Temperature, Tape and Reel; Manufacturer: Microchip; PartNumber: MCP4561T-104E/MS; DatasheetVersion: revA, Nov-2008; PackageVersion: revBB, Aug-2009; PackageReference: MSOP-MS8; PackageDescription: 8-Lead Plastic Micro Small Outline Package (MS) [MSOP]; Supplier 1: Digi-Key; Supplier Part Number 1: MCP4561T-104E/MS-ND; Mounting Technology: Surface Mount; ComponentLink1Description: Manufacturer URL; ComponentLink1URL: http://www.microchip.com/; ComponentLink2Description: Datasheet; ComponentLink2URL: http://ww1.microchip.com/downloads/en/DeviceDoc/22107a.pdf; ComponentLink3Description: Package Specification; ComponentLink3URL: http://www.microchip.com/stellent/groups/techpub_sg/documents/packagingspec/en012702.pdf
footprint MSOP-MS8_N (TSOP, 8-Leads, Body 3x3mm, Pitch 0.65mm, IPC Medium Density)
footprint MSOP-MS8_L (TSOP, 8-Leads, Body 3x3mm, Pitch 0.65mm, IPC High Density)
footprint MSOP-MS8_M (TSOP, 8-Leads, Body 3x3mm, Pitch 0.65mm, IPC Low Density)
pins: 1 HVC/A0 (in), 2 SCL (in), 3 SDA (io), 4 VSS (power), 5 P0A, 6 P0W, 7 P0B, 8 VDD (power)

## MCP4561T-502E/MF
designator U?
8-Bit Single I2C Digital POT with Non-Volatile Memory, 8-pin DFN, Extended Temperature, Tape and Reel; Manufacturer: Microchip; PartNumber: MCP4561T-502E/MF; DatasheetVersion: revA, Nov-2008; PackageVersion: revBB, Aug-2009; PackageReference: DFN-MF8; PackageDescription: 8-Lead Plastic Dual Flat, No Lead Package (MF) - 3x3x0.9mm Body [DFN]; Supplier 1: Digi-Key; Supplier Part Number 1: MCP4561T-502E/MFTR-ND; Mounting Technology: Surface Mount; ComponentLink1Description: Manufacturer URL; ComponentLink1URL: http://www.microchip.com/; ComponentLink2Description: Datasheet; ComponentLink2URL: http://ww1.microchip.com/downloads/en/DeviceDoc/22107a.pdf; ComponentLink3Description: Package Specification; ComponentLink3URL: http://www.microchip.com/stellent/groups/techpub_sg/documents/packagingspec/en012702.pdf
footprint DFN-MF8 (SON, 8-Leads, Body 3x3mm, Pitch 0.65mm, Microchip Recommended)
pins: 1 HVC/A0 (in), 2 SCL (in), 3 SDA (io), 4 VSS (power), 5 P0W, 6 P0B, 7 A1 (in), 8 VDD (power), 9 EP

## MCP4561T-502E/MS
designator U?
8-Bit Single I2C Digital POT with Non-Volatile Memory, 8-pin MSOP, Extended Temperature, Tape and Reel; Manufacturer: Microchip; PartNumber: MCP4561T-502E/MS; DatasheetVersion: revA, Nov-2008; PackageVersion: revBB, Aug-2009; PackageReference: MSOP-MS8; PackageDescription: 8-Lead Plastic Micro Small Outline Package (MS) [MSOP]; Supplier 1: Digi-Key; Supplier Part Number 1: MCP4561T-502E/MS-ND; Mounting Technology: Surface Mount; ComponentLink1Description: Manufacturer URL; ComponentLink1URL: http://www.microchip.com/; ComponentLink2Description: Datasheet; ComponentLink2URL: http://ww1.microchip.com/downloads/en/DeviceDoc/22107a.pdf; ComponentLink3Description: Package Specification; ComponentLink3URL: http://www.microchip.com/stellent/groups/techpub_sg/documents/packagingspec/en012702.pdf
footprint MSOP-MS8_N (TSOP, 8-Leads, Body 3x3mm, Pitch 0.65mm, IPC Medium Density)
footprint MSOP-MS8_L (TSOP, 8-Leads, Body 3x3mm, Pitch 0.65mm, IPC High Density)
footprint MSOP-MS8_M (TSOP, 8-Leads, Body 3x3mm, Pitch 0.65mm, IPC Low Density)
pins: 1 HVC/A0 (in), 2 SCL (in), 3 SDA (io), 4 VSS (power), 5 P0A, 6 P0W, 7 P0B, 8 VDD (power)